# Altium footprint library JST_XH_CONNECTOR.PcbLib: 10 footprints
Each footprint in its own frame and in the unit in brackets; x right, y up, seen from the top. Pads: shape width x height; smd on the part's side, far side on the other; paste and mask are expansions set on the pad; w line width, h text height; cw(c..) or ccw(c..) is an arc to the next point about the centre after c.
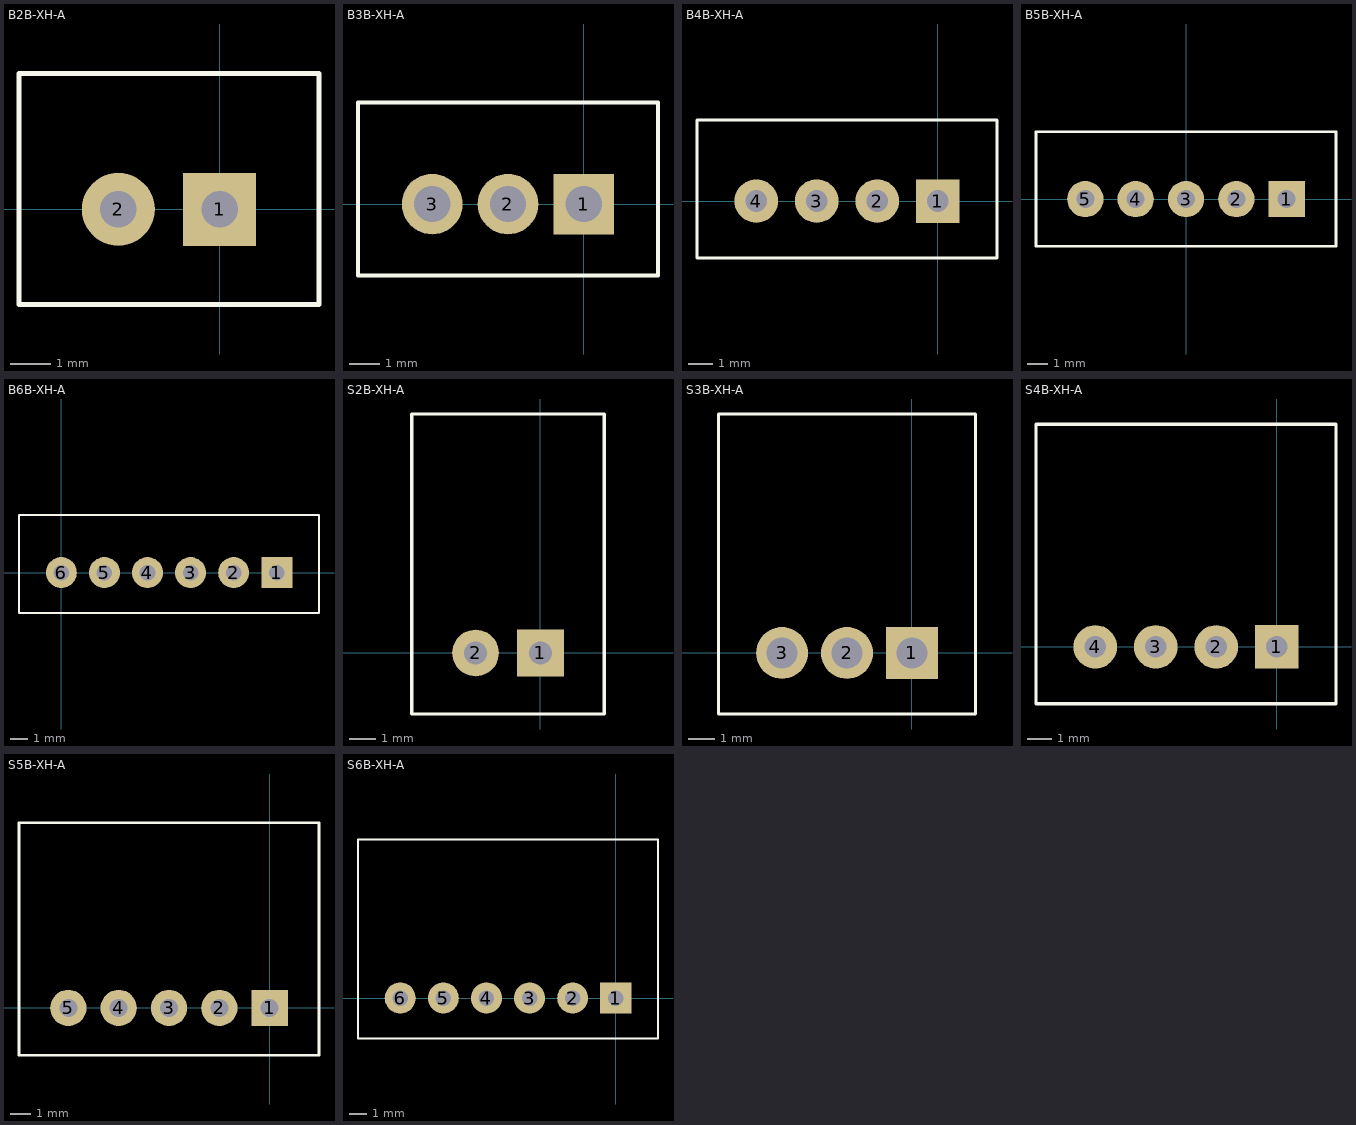
[diagram p0: the footprints below, top view; thin cyan lines are the x and y axes]

## B2B-XH-A [mm]
pads (2):
  rect 1.8x1.8 hole 0.9: 1(0,0)
  round 1.8 hole 0.9: 2(-2.5,0)
Top Overlay:
  lines w0.127: -4.95,-2.35 2.45,-2.35 2.45,3.35 -4.95,3.35 -4.95,-2.35
3D body "User Library-PW10-XX-M white (1).step": height 7, standoff -3.3, extent -4.966,-2.324 2.534,3.376

## B3B-XH-A [mm]
pads (3):
  rect 2x2 hole 1.19: 1(0,0)
  round 2 hole 1.19: 2(-2.5,0) 3(-5,0)
Top Overlay:
  lines w0.127: -7.45,-2.35 2.45,-2.35 2.45,3.35 -7.45,3.35 -7.45,-2.35
3D body "User Library-PW10-XX-M white.step": height 7, standoff -3.3, extent -7.518,-2.324 2.482,3.376

## B4B-XH-A [mm]
pads (4):
  rect 1.8x1.8 hole 0.9: 1(0,0)
  round 1.8 hole 0.9: 2(-2.5,0) 3(-5,0) 4(-7.5,0)
Top Overlay:
  lines w0.127: -9.95,-2.35 2.45,-2.35 2.45,3.35 -9.95,3.35 -9.95,-2.35
3D body "B4B-XH-A.step": height 7.15, standoff -3.15, extent -10.001,-2.35 2.499,3.35

## B5B-XH-A [mm]
pads (5):
  rect 1.8x1.8 hole 0.9: 1(5,0)
  round 1.8 hole 0.9: 2(2.5,0) 3(0,0) 4(-2.5,0) 5(-5,0)
Top Overlay:
  lines w0.127: -7.45,-2.35 7.45,-2.35 7.45,3.35 -7.45,3.35 -7.45,-2.35
3D body "User Library-jst-b4b-xh-a.step": height 7.15, standoff -3.25, extent -7.452,-2.35 7.448,3.4

## B6B-XH-A [mm]
pads (6):
  rect 1.8x1.8 hole 0.9: 1(12.5,0)
  round 1.8 hole 0.9: 2(10,0) 3(7.5,0) 4(5,0) 5(2.5,0) 6(0,0)
Top Overlay:
  lines w0.127: -2.455,-2.35 14.95,-2.35 14.95,3.35 -2.455,3.35 -2.455,-2.35
3D body "User Library-jst-b6b-xh-a.step": height 7, standoff -3.4, extent -2.452,-2.375 14.947,3.375

## S2B-XH-A [mm]
pads (2):
  rect 1.8x1.8 hole 0.9: 1(0,0)
  round 1.8 hole 0.9: 2(-2.5,0)
Top Overlay:
  lines w0.127: -4.95,-2.35 -4.95,9.2 2.45,9.2 2.45,-2.35 -4.95,-2.35
3D body "User Library-S XH-A.step": height 6.1, standoff -2, extent -4.894,-2.3 2.506,9.2

## S3B-XH-A [mm]
pads (3):
  rect 2x2 hole 1.19: 1(0,0)
  round 2 hole 1.19: 2(-2.5,0) 3(-5,0)
Top Overlay:
  lines w0.127: -7.45,-2.35 -7.45,9.2 2.45,9.2 2.45,-2.35 -7.45,-2.35
3D body "S3B-XH-A.STEP": height 6.15, standoff -3.4, extent -7.45,-2.35 2.45,9.15

## S4B-XH-A [mm]
pads (4):
  rect 1.8x1.8 hole 0.9: 1(0,0)
  round 1.8 hole 0.9: 2(-2.5,0) 3(-5,0) 4(-7.5,0)
Top Overlay:
  lines w0.127: -9.95,-2.35 -9.95,9.2 2.45,9.2 2.45,-2.35 -9.95,-2.35
3D body "User Library-jst-s4b-xh-a.step": height 6.25, standoff -3.25, extent -9.95,-2.35 2.45,9.15

## S5B-XH-A [mm]
pads (5):
  rect 1.8x1.8 hole 0.9: 1(0,0)
  round 1.8 hole 0.9: 2(-2.5,0) 3(-5,0) 4(-7.5,0) 5(-10,0)
Top Overlay:
  lines w0.127: -12.45,-2.35 2.45,-2.35 2.45,9.2 -12.45,9.2 -12.45,-2.35
3D body "User Library-jst-s5b-xh-a.step": height 6.25, standoff -3.25, extent -12.45,-2.35 2.45,9.15

## S6B-XH-A [mm]
pads (6):
  rect 1.8x1.8 hole 0.9: 1(0,0)
  round 1.8 hole 0.9: 2(-2.5,0) 3(-5,0) 4(-7.5,0) 5(-10,0) 6(-12.5,0)
Top Overlay:
  lines w0.127: -14.95,-2.35 2.45,-2.35 2.45,9.2 -14.95,9.2 -14.95,-2.35
3D body "S6B-XH-A.STEP": height 6.15, standoff -3.4, extent -14.936,-2.35 2.464,9.15